# EAGLE library part SW_DP- (library _mtvl.switch)
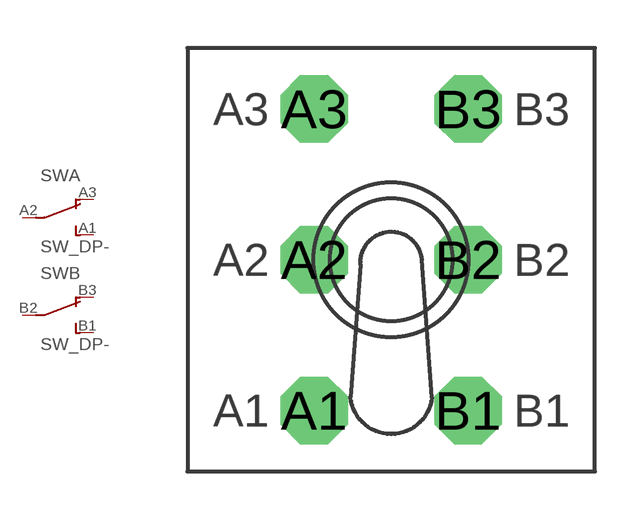
[diagram p4: symbol with the pads of MTS-203; footprint MTS-203]

Designator prefix SW; gates A=DP B=DP

## SW_DP-VERT  [MTS-203]
A1  A:3  pas
A2  A:2  pas
A3  A:1  pas
B1  B:3  pas
B2  B:2  pas
B3  B:1  pas

## Footprint MTS-203 (pad centres in mm)
MTS-2XX VERTICAL
drill 1.4 octagon: A1 -2.4,-4.7; A2 -2.4,0; A3 -2.4,4.7; B1 2.4,-4.7; B2 2.4,0; B3 2.4,4.7